# Altium integrated library FPGA Peripherals.IntLib: 12 symbols
Pins are listed as number, name and electrical type; pins without a type are passive.

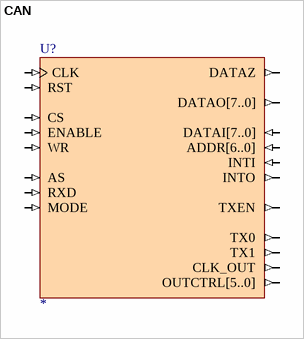
[diagram p0: symbol CAN]

## CAN
designator U?
CAN Controller; ChildModel1: CAN10000_DRAM8X64; ChildModel2: CAN10000_DRAM8x64_prim0; Published: 9-Dec-2004; Publisher: Altium Limited; ComponentLink1Description: Core &Resource Usage; ComponentLink1URL: CR0139 FPGA Peripheral Resource Usage.pdf#page=3; HelpURL: https://wiki.altium.com/download/attachments/3080710/CAN+-+CAN+Controller.pdf?version=1; LastRevisionNo: 1.00.00
pins: ADDR[6..0] (in), AS (in), CLK (in), CLK_OUT (out), CS (in), DATAI[7..0] (in), DATAO[7..0] (out), DATAZ (out), ENABLE (in), INTI (in), INTO (out), MODE (in), OUTCTRL[5..0] (out), RST (in), RXD (in), TX0 (out), TX1 (out), TXEN (out), WR (in)


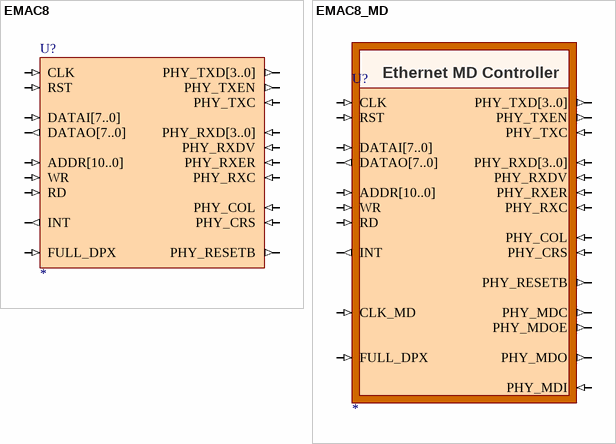
[diagram p1: symbols EMAC8 to EMAC8_MD]

## EMAC8
designator U?
Ethernet Controller; ChildModel1: Memory_M1_EMAC; ChildModel2: Memory_M2_EMAC; ChildModel3: Memory_M1_EMAC_prim0; ChildModel4: Memory_M2_EMAC_prim0; Published: 11-May-2005; Publisher: Altium Limited; ComponentLink1Description: Core &Resource Usage; ComponentLink1URL: CR0139 FPGA Peripheral Resource Usage.pdf#page=6; HelpURL: https://wiki.altium.com/download/attachments/3080710/EMAC8%2C+EMAC8_MD+-+Ethernet+Media+Access+Controller.pdf?version=1; LastRevisionNo: 1.00.00
pins: ADDR[10..0] (in), CLK (in), DATAI[7..0] (in), DATAO[7..0] (out), FULL_DPX (in), INT (out), PHY_COL (in), PHY_CRS (in), PHY_RESETB (out), PHY_RXC (in), PHY_RXD[3..0] (in), PHY_RXDV (in), PHY_RXER (in), PHY_TXC (in), PHY_TXD[3..0] (out), PHY_TXEN (out), RD (in), RST (in), WR (in)

## EMAC8_MD
designator U?
Ethernet MD Controller Wishbone; ChildModel1: Memory_M1_EMAC; ChildModel2: Memory_M2_EMAC; ChildModel3: Memory_M1_EMAC_prim0; ChildModel4: Memory_M2_EMAC_prim0; Published: 11-May-2005; Publisher: Altium Limited; ComponentLink1Description: Core &Resource Usage; ComponentLink1URL: CR0139 FPGA Peripheral Resource Usage.pdf#page=7; HelpURL: https://wiki.altium.com/download/attachments/3080710/EMAC8%2C+EMAC8_MD+-+Ethernet+Media+Access+Controller.pdf?version=1; LastRevisionNo: 1.00.00
pins: ADDR[10..0] (in), CLK (in), CLK_MD (in), DATAI[7..0] (in), DATAO[7..0] (out), FULL_DPX (in), INT (out), PHY_COL (in), PHY_CRS (in), PHY_MDC (out), PHY_MDI (in), PHY_MDO (out), PHY_MDOE (out), PHY_RESETB (out), PHY_RXC (in), PHY_RXD[3..0] (in), PHY_RXDV (in), PHY_RXER (in), PHY_TXC (in), PHY_TXD[3..0] (out), PHY_TXEN (out), RD (in), RST (in), WR (in)
text: Ethernet MD Controller


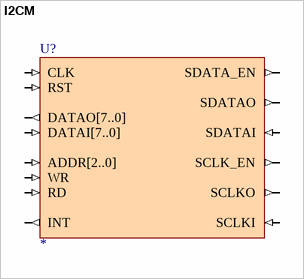
[diagram p2: symbol I2CM]

## I2CM
designator U?
I2C Master; Published: 9-Dec-2004; Publisher: Altium Limited; ComponentLink1Description: Core &Resource Usage; ComponentLink1URL: CR0139 FPGA Peripheral Resource Usage.pdf#page=16; HelpURL: https://wiki.altium.com/download/attachments/3080710/CR0105+I2CM+Controller.PDF?version=1; LastRevisionNo: 1.00.00
pins: ADDR[2..0] (in), CLK (in), DATAI[7..0] (in), DATAO[7..0] (out), INT (out), RD (in), RST (in), SCLK_EN (out), SCLKI (in), SCLKO (out), SDATA_EN (out), SDATAI (in), SDATAO (out), WR (in)


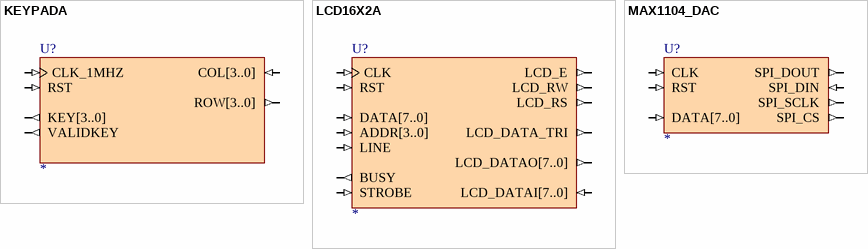
[diagram p3: symbols KEYPADA to MAX1104_DAC]

## KEYPADA
designator U?
Keypad; Published: 9-Dec-2004; Publisher: Altium Limited; ComponentLink1Description: Core &Resource Usage; ComponentLink1URL: CR0139 FPGA Peripheral Resource Usage.pdf#page=19; HelpURL: https://wiki.altium.com/download/attachments/3080710/KEYPADA+-+Keypad+Controller.pdf?version=1; LastRevisionNo: 1.00.00
pins: CLK_1MHZ (in), COL[3..0] (in), KEY[3..0] (out), ROW[3..0] (out), RST (in), VALIDKEY (out)

## LCD16X2A
designator U?
LCD Controller; Published: 9-Dec-2004; Publisher: Altium Limited; ComponentLink1Description: Core &Resource Usage; ComponentLink1URL: CR0139 FPGA Peripheral Resource Usage.pdf#page=22; HelpURL: https://wiki.altium.com/download/attachments/3080710/LCD16X2A+-+LCD+Controller.pdf?version=1; LastRevisionNo: 1.00.00
pins: ADDR[3..0] (in), BUSY (out), CLK (in), DATA[7..0] (in), LCD_DATA_TRI (out), LCD_DATAI[7..0] (in), LCD_DATAO[7..0] (out), LCD_E (out), LCD_RS (out), LCD_RW (out), LINE (in), RST (in), STROBE (in)

## MAX1104_DAC
designator U?
MAX1104 DAC Controller; UseInDSF: True; Published: 9-Dec-2004; Publisher: Altium Limited; ComponentLink1Description: Core &Resource Usage; ComponentLink1URL: CR0139 FPGA Peripheral Resource Usage.pdf#page=24; HelpURL: https://wiki.altium.com/download/attachments/3080710/CR0120+MAX1104+DAC+Controller.PDF?version=1; LastRevisionNo: 1.00.00
pins: CLK (in), DATA[7..0] (in), RST (in), SPI_CS (out), SPI_DIN (in), SPI_DOUT (out), SPI_SCLK (out)


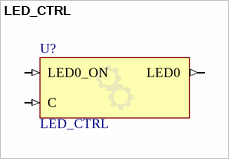
[diagram p4: symbol LED_CTRL]

## LED_CTRL
designator U?
Configurable LED Controller; ConfigurationParameters: {}Version[1.0]{}NumLEDs[1]{}IntensityControl[Constant]{}ConstantIntensity[10]{}BusEnOut[False]{}IsRGB[False]{}; LastRevisionNo: 1.00.00; Published: 27-Apr-2009; Publisher: Altium Limited; ConfiguratorName: LED_CTRL
pins: C (in), LED0 (out), LED0_ON (in)


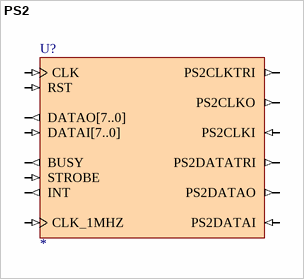
[diagram p5: symbol PS2]

## PS2
designator U?
PS2 Controller; Published: 9-Dec-2004; Publisher: Altium Limited; ComponentLink1Description: Core &Resource Usage; ComponentLink1URL: CR0139 FPGA Peripheral Resource Usage.pdf#page=59; HelpURL: https://wiki.altium.com/download/attachments/3080710/PS2+-+PS2+Controller.pdf?version=1; LastRevisionNo: 1.00.00
pins: BUSY (out), CLK (in), CLK_1MHZ (in), DATAI[7..0] (in), DATAO[7..0] (out), INT (out), PS2CLKI (in), PS2CLKO (out), PS2CLKTRI (out), PS2DATAI (in), PS2DATAO (out), PS2DATATRI (out), RST (in), STROBE (in)


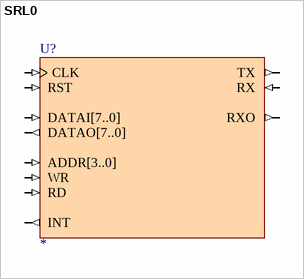
[diagram p6: symbol SRL0]

## SRL0
designator U?
Serial 0; Published: 9-Dec-2004; Publisher: Altium Limited; ComponentLink1Description: Core &Resource Usage; ComponentLink1URL: CR0139 FPGA Peripheral Resource Usage.pdf#page=62; HelpURL: https://wiki.altium.com/download/attachments/3080710/CR0111+SRL0+Serial+Port+Unit.PDF?version=1; LastRevisionNo: 1.00.00
pins: ADDR[3..0] (in), CLK (in), DATAI[7..0] (in), DATAO[7..0] (out), INT (out), RD (in), RST (in), RX (in), RXO (out), TX (out), WR (in)


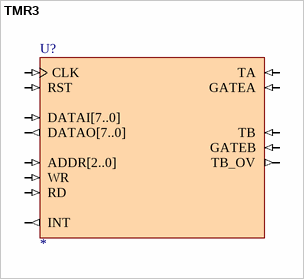
[diagram p7: symbol TMR3]

## TMR3
designator U?
Timer 3; Published: 9-Dec-2004; Publisher: Altium Limited; ComponentLink1Description: Core &Resource Usage; ComponentLink1URL: CR0139 FPGA Peripheral Resource Usage.pdf#page=64; HelpURL: https://wiki.altium.com/download/attachments/3080710/TMR3+-+Dual+Timer+Unit.pdf?version=1; LastRevisionNo: 1.00.00
pins: ADDR[2..0] (in), CLK (in), DATAI[7..0] (in), DATAO[7..0] (out), GATEA (in), GATEB (in), INT (out), RD (in), RST (in), TA (in), TB (in), TB_OV (out), WR (in)


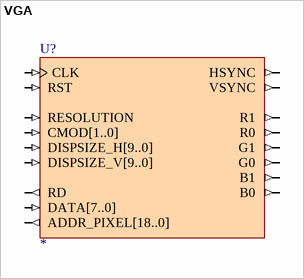
[diagram p8: symbol VGA]

## VGA
designator U?
VGA Controller; Published: 9-Dec-2004; Publisher: Altium Limited; ComponentLink1Description: Core &Resource Usage; ComponentLink1URL: CR0139 FPGA Peripheral Resource Usage.pdf#page=66; HelpURL: https://wiki.altium.com/download/attachments/3080710/CR0113+VGA+-+8-bit+VGA+Controller.PDF?version=1; LastRevisionNo: 1.00.00
pins: ADDR_PIXEL[18..0] (out), B0 (out), B1 (out), CLK (in), CMOD[1..0] (in), DATA[7..0] (in), DISPSIZE_H[9..0] (in), DISPSIZE_V[9..0] (in), G0 (out), G1 (out), HSYNC (out), R0 (out), R1 (out), RD (out), RESOLUTION (in), RST (in), VSYNC (out)